# Altium integrated library 901-143-6RFX.IntLib: 1 symbol
Pins are listed as number, name and electrical type; pins without a type are passive.

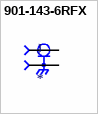
[diagram p0: symbol 901-143-6RFX]

## 901-143-6RFX
designator J
SMA Connector Jack, Female Socket 50Ohm Through Hole, Right Angle Solder; MP: 901-143-6RFX; MF: Amphenol RF; SnapEDA_Link: https://www.snapeda.com/parts/901-143-6RFX/Amphenol%20RF%20Division/view-part/48434/?ref=snap; Availability: Unavailable; Package: None; Price: None; Value: *
footprint AMPHENOL_901-143-6RFX
pins: 1, S1 2, S2 2, S3 2, S4 2